# EAGLE library part SP485EEN-L_TR (library SP485EEN-L_TR)
EXAR SP485EEN-L/TR, Line Transceiver, RS-422/ RS-485, 5 V, 8-Pin SOIC Source: Datasheet <https://componentsearchengine.com/Datasheets/1/SP485EEN-L_TR.pdf>
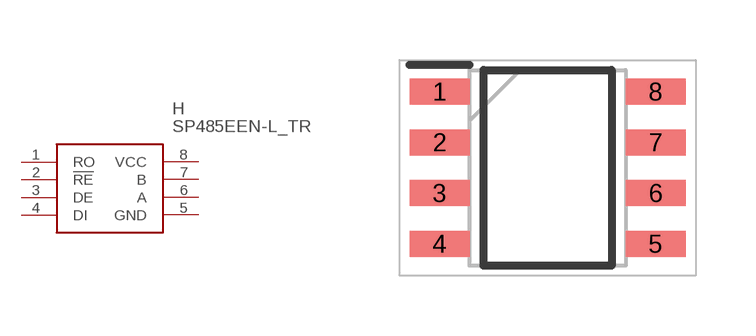
[diagram p0: symbol with the pads of SOIC127P600X175-8N; footprint SOIC127P600X175-8N]

Designator prefix H

## SP485EEN-L_TR (Arrow_Part_Number: SP485EEN-L/TR; Arrow_Price-Stock: https://www.arrow.com/en/products/sp485een-ltr/exar; Description: EXAR SP485EEN-L/TR, Line Transceiver, RS-422/ RS-485, 5 V, 8-Pin SOIC; Height: 1.75mm; Manufacturer_Name: EXAR; Manufacturer_Part_Number: SP485EEN-L/TR; Mouser_Part_Number: 701-SP485EEN-L/TR; Mouser_Price-Stock: https://www.mouser.com/Search/Refine.aspx?Keyword=701-SP485EEN-L%2FTR)  [SOIC127P600X175-8N]
1  RO
2  !RE
3  DE
4  DI
5  GND
6  A
7  B
8  VCC

## Footprint SOIC127P600X175-8N (pad centres in mm)
SP485EEN-L/TR-1
smd 1.5 x 0.65: 1 -2.7,1.905; 2 -2.7,0.635; 3 -2.7,-0.635; 4 -2.7,-1.905; 5 2.7,-1.905; 6 2.7,-0.635; 7 2.7,0.635; 8 2.7,1.905